# Altium footprint library sod_882_100x60x60.PcbLib: 1 footprints
Each footprint in its own frame and in the unit in brackets; x right, y up, seen from the top. Pads: shape width x height; smd on the part's side, far side on the other; paste and mask are expansions set on the pad; w line width, h text height; cw(c..) or ccw(c..) is an arc to the next point about the centre after c.
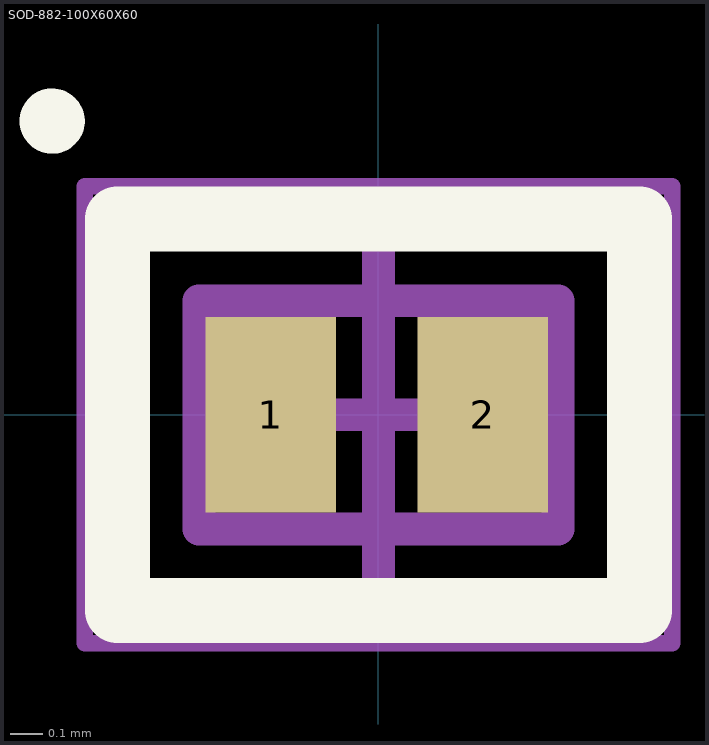
[diagram p0: the footprint, top view; thin cyan lines are the x and y axes]

## SOD-882-100X60X60 [mm] "DFN, 2-Leads, Body 0,60x1,02mm, Pitch 0,65mm, IPC Medium Density"
height 0.6
pads (2):
  rect 0.4x0.6 smd: 1(-0.33,0) 2(0.32,0)
Top Overlay:
  circle w0.1: c-1,0.9 r0.05
  lines w0.2: -0.8,-0.6 0.8,-0.6 0.8,0.6 -0.8,0.6 -0.8,-0.6
Top Comment:
  text ".Comment" at 1,1.5 h1.2
Top Designator:
  text ".Designator" at -0.5,1.5 h1.2
Top Component Outline:
  lines w0.1: -0.55,-0.35 0.55,-0.35 0.55,0.35 -0.55,0.35 -0.55,-0.35
Top Courtyard (Mech15):
  lines w0.05: -0.9,-0.7 0.9,-0.7 0.9,0.7 -0.9,0.7 -0.9,-0.7
  lines w0.1: -0.5,0 0.5,0 ; 0,-0.5 0,0.5
3D body "User Library-sod882t_p0-65_l1_w0-6_h0-451.STEP": height 0.44, standoff -0.01, extent -0.5,-0.305 0.5,0.305